# Altium footprint library IC.PcbLib: 42 footprints (part 2 of 3)
Each footprint in its own frame and in the unit in brackets; x right, y up, seen from the top. Pads: shape width x height; smd on the part's side, far side on the other; paste and mask are expansions set on the pad; w line width, h text height; cw(c..) or ccw(c..) is an arc to the next point about the centre after c.
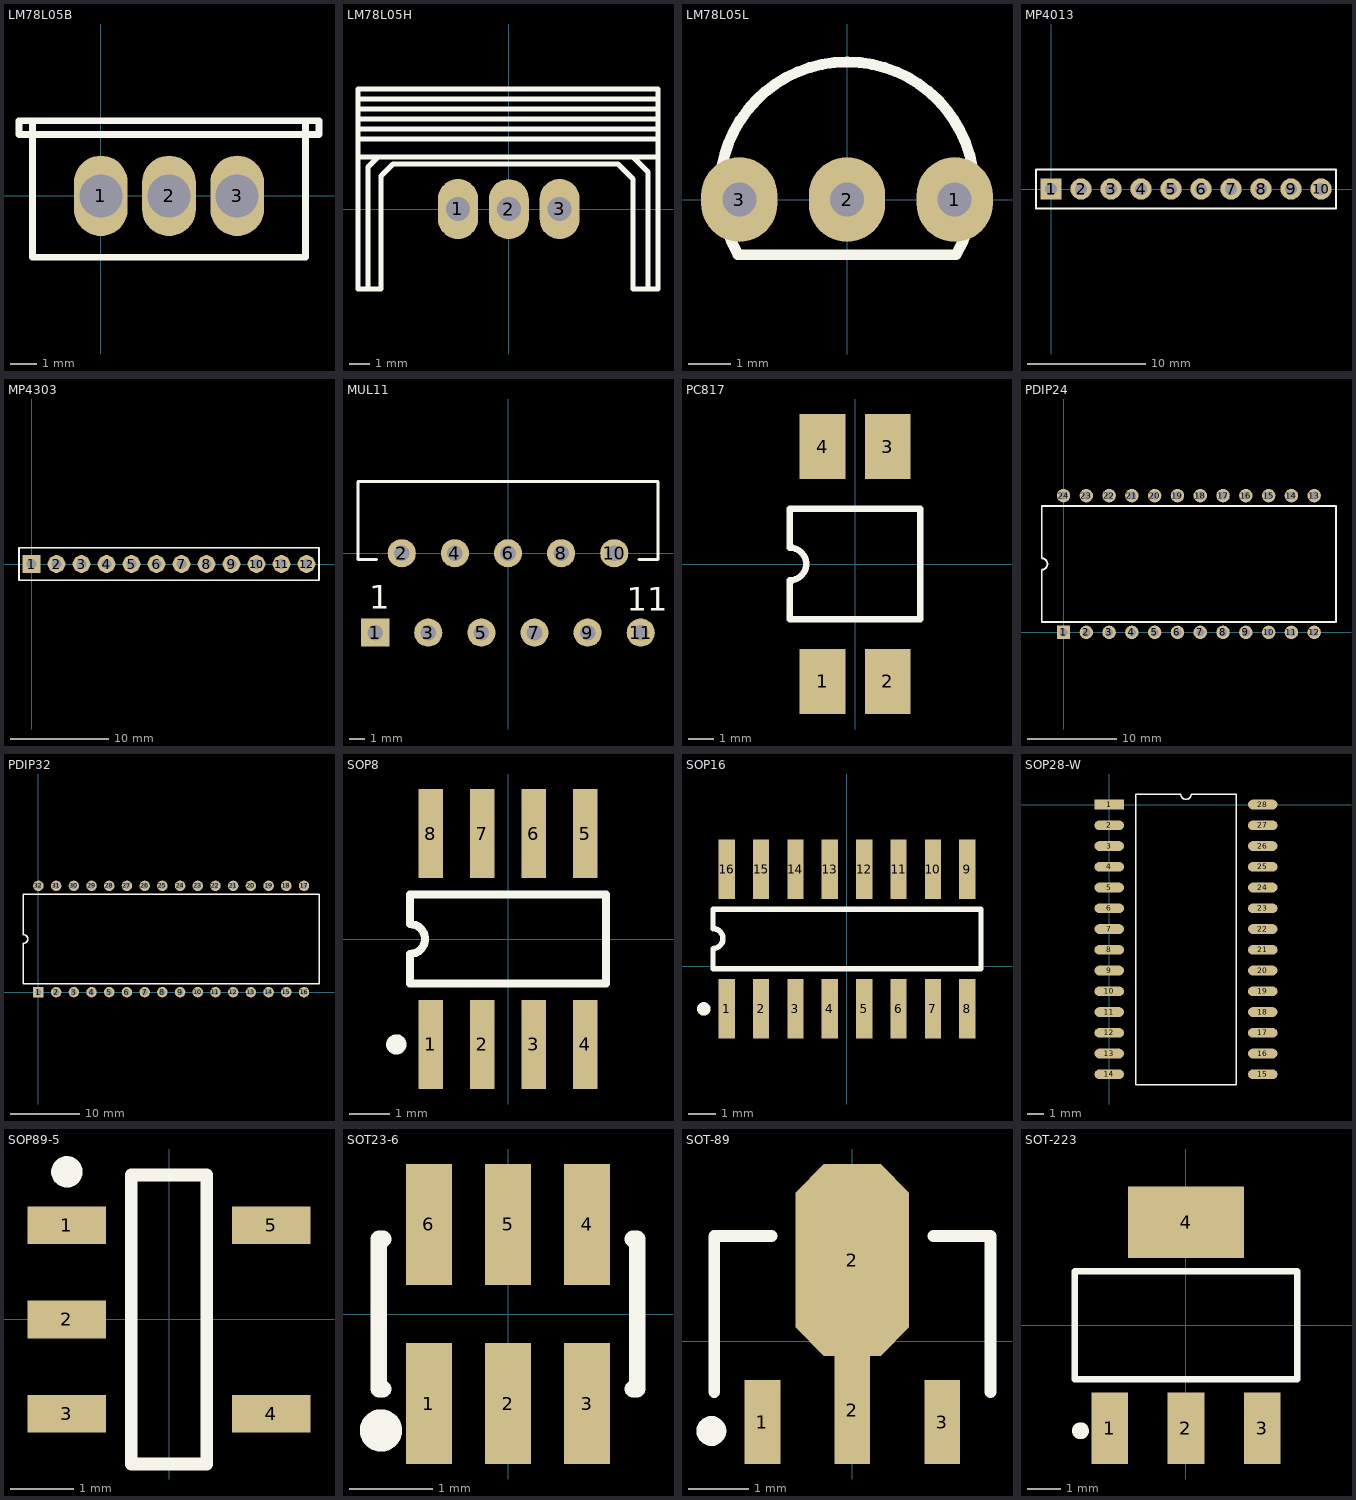
[diagram p1: the footprints below, top view; thin cyan lines are the x and y axes]

## LM78L05B [mm]
pads (3):
  oval 2x3 hole 1.6: 1(0,0) 2(2.54,0) 3(5.08,0)
Top Overlay:
  lines w0.254: -2.54,2.794 7.62,2.794 ; -2.54,2.794 -2.54,-2.286 7.62,-2.286 7.62,2.794 ; -2.54,2.794 -3.048,2.794 -3.048,2.286 -2.54,2.286 7.62,2.286 8.128,2.286 8.128,2.794 7.62,2.794

## LM78L05H [mm]
pads (3):
  oval 2x3 hole 1.2: 1(-2.544,0.006) 2(0,0) 3(2.536,0.006)
Top Overlay:
  lines w0.254: -7.544,2.61 7.456,2.61 ; -7.544,3.506 7.456,3.506 ; -7.544,4.006 7.456,4.006 ; -7.544,4.506 7.456,4.506 ; -7.544,5.006 7.456,5.006 ; -7.544,5.506 7.456,5.506 ; -7.044,-3.994 -7.044,2.11 -6.544,2.61 ; 6.206,2.61 6.956,1.86 6.956,-3.994 ; -7.544,-3.994 -6.392,-3.994 -6.392,1.658 -5.794,2.256 5.456,2.256 6.206,1.506 6.206,-3.994 7.456,-3.994 7.456,6.006 -7.544,6.006 -7.544,-3.994

## LM78L05L [mm]
pads (3):
  oval 1.8x2 hole 0.8: 1(2.54,0) 2(0,0) 3(-2.54,0)
Top Overlay:
  lines w0.254: -2.594,-1.25 cw(c0.004,0.25) 2.602,-1.25 ; -2.576,-1.3 2.574,-1.3

## MP4013 [mm] "Connector; Header; 10 Position"
pads (10):
  rect 1.8x1.8 hole 1: 1(0,0)
  round 1.8 hole 1: 2(2.54,0) 3(5.08,0) 4(7.62,0) 5(10.16,0) 6(12.7,0) 7(15.24,0) 8(17.78,0) 9(20.32,0) 10(22.86,0)
Top Overlay:
  lines w0.2: -1.27,-1.651 -1.27,1.651 24.13,1.651 24.13,-1.651 -1.27,-1.651

## MP4303 [mm] "Connector; Header; 12 Position"
pads (12):
  rect 1.8x1.8 hole 1: 1(0,0)
  round 1.8 hole 1: 2(2.54,0) 3(5.08,0) 4(7.62,0) 5(10.16,0) 6(12.7,0) 7(15.24,0) 8(17.78,0) 9(20.32,0) 10(22.86,0) 11(25.4,0) 12(27.94,0)
Top Overlay:
  lines w0.2: -1.27,-1.651 29.21,-1.651 29.21,1.651 -1.27,1.651 -1.27,-1.651

## MUL11 [mm]
height 21
pads (11):
  rect 1.8x1.8 hole 1: 1(-8.495,-5.08)
  round 1.8 hole 1: 2(-6.8,0) 3(-5.105,-5.08) 4(-3.4,0) 5(-1.705,-5.08) 6(0,0) 7(1.695,-5.08) 8(3.4,0) 9(5.095,-5.08) 10(6.8,0) 11(8.495,-5.08)
Top Overlay:
  lines w0.2: -8.405,-0.4 -9.6,-0.4 -9.6,4.6 9.6,4.6 9.6,-0.4 8.4,-0.4
  text "1" at -8.876,-3.556 h1.5
  text "11" at 7.595,-3.68 h1.5

## PC817 [mil]
pads (4):
  rect 70x100 smd: 1(-50,-180) 2(50,-180) 3(50,180) 4(-50,180)
Top Overlay:
  lines w10: -100,-85 100,-85 100,85 -100,85 -100,25 cw(c-100,0) -100,-25 -100,-85

## PDIP24 [mm] "DIP; 24 Leads; Row Spacing 15.24 mm; Pitch 2.54 mm"
height 5.72
pads (24):
  rect 1.5x1.5 hole 0.9: 1(0,0)
  round 1.5 hole 0.9: 2(2.54,0) 3(5.08,0) 4(7.62,0) 5(10.16,0) 6(12.7,0) 7(15.24,0) 8(17.78,0) 9(20.32,0) 10(22.86,0) 11(25.4,0) 12(27.94,0) 13(27.94,15.24) 14(25.4,15.24) 15(22.86,15.24) 16(20.32,15.24) 17(17.78,15.24) 18(15.24,15.24) 19(12.7,15.24) 20(10.16,15.24) 21(7.62,15.24) 22(5.08,15.24) 23(2.54,15.24) 24(0,15.24)
Top Overlay:
  lines w0.2: -2.43,1.17 -2.43,6.985 ccw(c-2.43,7.62) -2.43,8.255 -2.43,14.07 30.37,14.07 30.37,1.17 -2.43,1.17

## PDIP32 [mm] "DIP, Plastic; 32 Leads; Row Spacing 15.24 mm; Pitch 2.54 mm"
height 5.08
pads (32):
  rect 1.5x1.5 hole 0.9: 1(0,0)
  round 1.5 hole 0.9: 2(2.54,0) 3(5.08,0) 4(7.62,0) 5(10.16,0) 6(12.7,0) 7(15.24,0) 8(17.78,0) 9(20.32,0) 10(22.86,0) 11(25.4,0) 12(27.94,0) 13(30.48,0) 14(33.02,0) 15(35.56,0) 16(38.1,0) 17(38.1,15.24) 18(35.56,15.24) 19(33.02,15.24) 20(30.48,15.24) 21(27.94,15.24) 22(25.4,15.24) 23(22.86,15.24) 24(20.32,15.24) 25(17.78,15.24) 26(15.24,15.24) 27(12.7,15.24) 28(10.16,15.24) 29(7.62,15.24) 30(5.08,15.24) 31(2.54,15.24) 32(0,15.24)
Top Overlay:
  lines w0.2: -2.15,1.17 -2.15,6.985 ccw(c-2.15,7.62) -2.15,8.255 -2.15,14.07 40.25,14.07 40.25,1.17 -2.15,1.17

## SOP8 [mm]
pads (8):
  rect 0.6x2.2 smd: 1(-1.905,-2.6) 2(-0.635,-2.6) 3(0.635,-2.6) 4(1.905,-2.6) 5(1.905,2.6) 6(0.635,2.6) 7(-0.635,2.6) 8(-1.905,2.6)
Top Overlay:
  circle w0.25: c-2.755,-2.6 r0.125
  lines w0.2: -2.413,-1.1 2.413,-1.1 2.413,1.1 -2.413,1.1 -2.413,0.367 cw(c-2.413,0) -2.413,-0.367 -2.413,-1.1

## SOP16 [mm]
pads (16):
  rect 0.6x2.2 smd: 1(-4.445,-1.568) 2(-3.175,-1.568) 3(-1.905,-1.568) 4(-0.635,-1.568) 5(0.635,-1.568) 6(1.905,-1.568) 7(3.175,-1.568) 8(4.445,-1.568) 9(4.445,3.6) 10(3.175,3.6) 11(1.905,3.6) 12(0.635,3.6) 13(-0.635,3.6) 14(-1.905,3.6) 15(-3.175,3.6) 16(-4.445,3.6)
Top Overlay:
  circle w0.25: c-5.295,-1.568 r0.125
  lines w0.2: -4.953,-0.084 4.953,-0.084 4.953,2.116 -4.953,2.116 -4.953,1.397 cw(c-4.953,1.03) -4.953,0.664 -4.953,-0.084

## SOP28-W [mm]
pads (28):
  rect 1.8x0.6 smd: 1(0,0)
  oval 1.8x0.6 smd: 2(0,-1.27) 3(0,-2.54) 4(0,-3.81) 5(0,-5.08) 6(0,-6.35) 7(0,-7.62) 8(0,-8.89) 9(0,-10.16) 10(0,-11.43) 11(0,-12.7) 12(0,-13.97) 13(0,-15.24) 14(0,-16.51) 15(9.4,-16.51) 16(9.4,-15.24) 17(9.4,-13.97) 18(9.4,-12.7) 19(9.4,-11.43) 20(9.4,-10.16) 21(9.4,-8.89) 22(9.4,-7.62) 23(9.4,-6.35) 24(9.4,-5.08) 25(9.4,-3.81) 26(9.4,-2.54) 27(9.4,-1.27) 28(9.4,0)
Top Overlay:
  lines w0.1: 1.635,-17.145 7.765,-17.145 7.765,0.635 5.017,0.635 cw(c4.7,0.635) 4.382,0.635 1.635,0.635 1.635,-17.145

## SOP89-5 [mm] "SOT23, 5-Leads, Body 4.6x4.3mm (max), Pitch 1.50mm, IPC Medium Density"
height 1.5
pads (5):
  rect 1.25x0.6 smd: 1(-1.625,1.5) 2(-1.625,0) 3(-1.625,-1.5) 4(1.625,-1.5) 5(1.625,1.5)
Top Overlay:
  circle w0.25: c-1.625,2.35 r0.125
  lines w0.2: -0.6,-2.3 -0.6,2.3 0.6,2.3 0.6,-2.3 -0.6,-2.3

## SOT23-6 [mm] "SOT-23/SC-74A; 5 Leads; Body 3.1 x 3 mm, inc. leads (LxW max)"
height 1.45
pads (6):
  rect 0.55x1.45 smd: 1(-0.95,-1.075) 2(0,-1.075) 3(0.95,-1.075) 4(0.95,1.075) 5(0,1.075) 6(-0.95,1.075)
Top Overlay:
  circle w0.254: c-1.524,-1.397 r0.127
  lines w0.2: -1.5,-0.9 -1.55,-0.9 -1.55,0.9 -1.5,0.9 ; 1.5,-0.9 1.55,-0.9 1.55,0.9 1.5,0.9

## SOT-89 [mm] "SOT89, 3-Leads, Body 4.5x2.4mm (max), Pitch 1.50mm, Lead Span 4.1mm, IPC Medium Density"
height 1.6
pads (4):
  rect 0.6x1.4 smd: 1(-1.5,-1.35) 3(1.5,-1.35)
  rect 0.6x1.8 smd: 2(0,-1.15)
  oct 1.9x3.2 smd: 2(0,1.35)
Top Overlay:
  circle w0.25: c-2.35,-1.5 r0.125
  lines w0.2: -2.3,-0.85 -2.3,1.75 -1.35,1.75 ; 1.35,1.75 2.3,1.75 2.3,-0.85
Mechanical 13:
  lines w0.1: -2.3,-0.85 -2.3,1.75 ; 2.3,-0.85 2.3,1.75
Mechanical 15:
  lines w0.1: -0.5,0.45 0.5,0.45 ; 0,-0.05 0,0.95

## SOT-223 [mm] "SOT-223/SC-73; 4 Leads; Body 6.7 x 7.3 mm, inc. leads (LxW max)"
height 1.8
pads (4):
  rect 1.1x2.15 smd: 1(-2.3,-3.1) 2(0,-3.1) 3(2.3,-3.1)
  rect 3.5x2.15 smd: 4(0,3.1)
Top Overlay:
  circle w0.254: c-3.175,-3.175 r0.127
  lines w0.2: -3.35,-1.625 3.35,-1.625 3.35,1.625 -3.35,1.625 -3.35,-1.625